# Altium schematic symbol library DISCRETE_T1.SchLib: 168 symbols
Pins are listed as number, name and electrical type; pins without a type are passive.

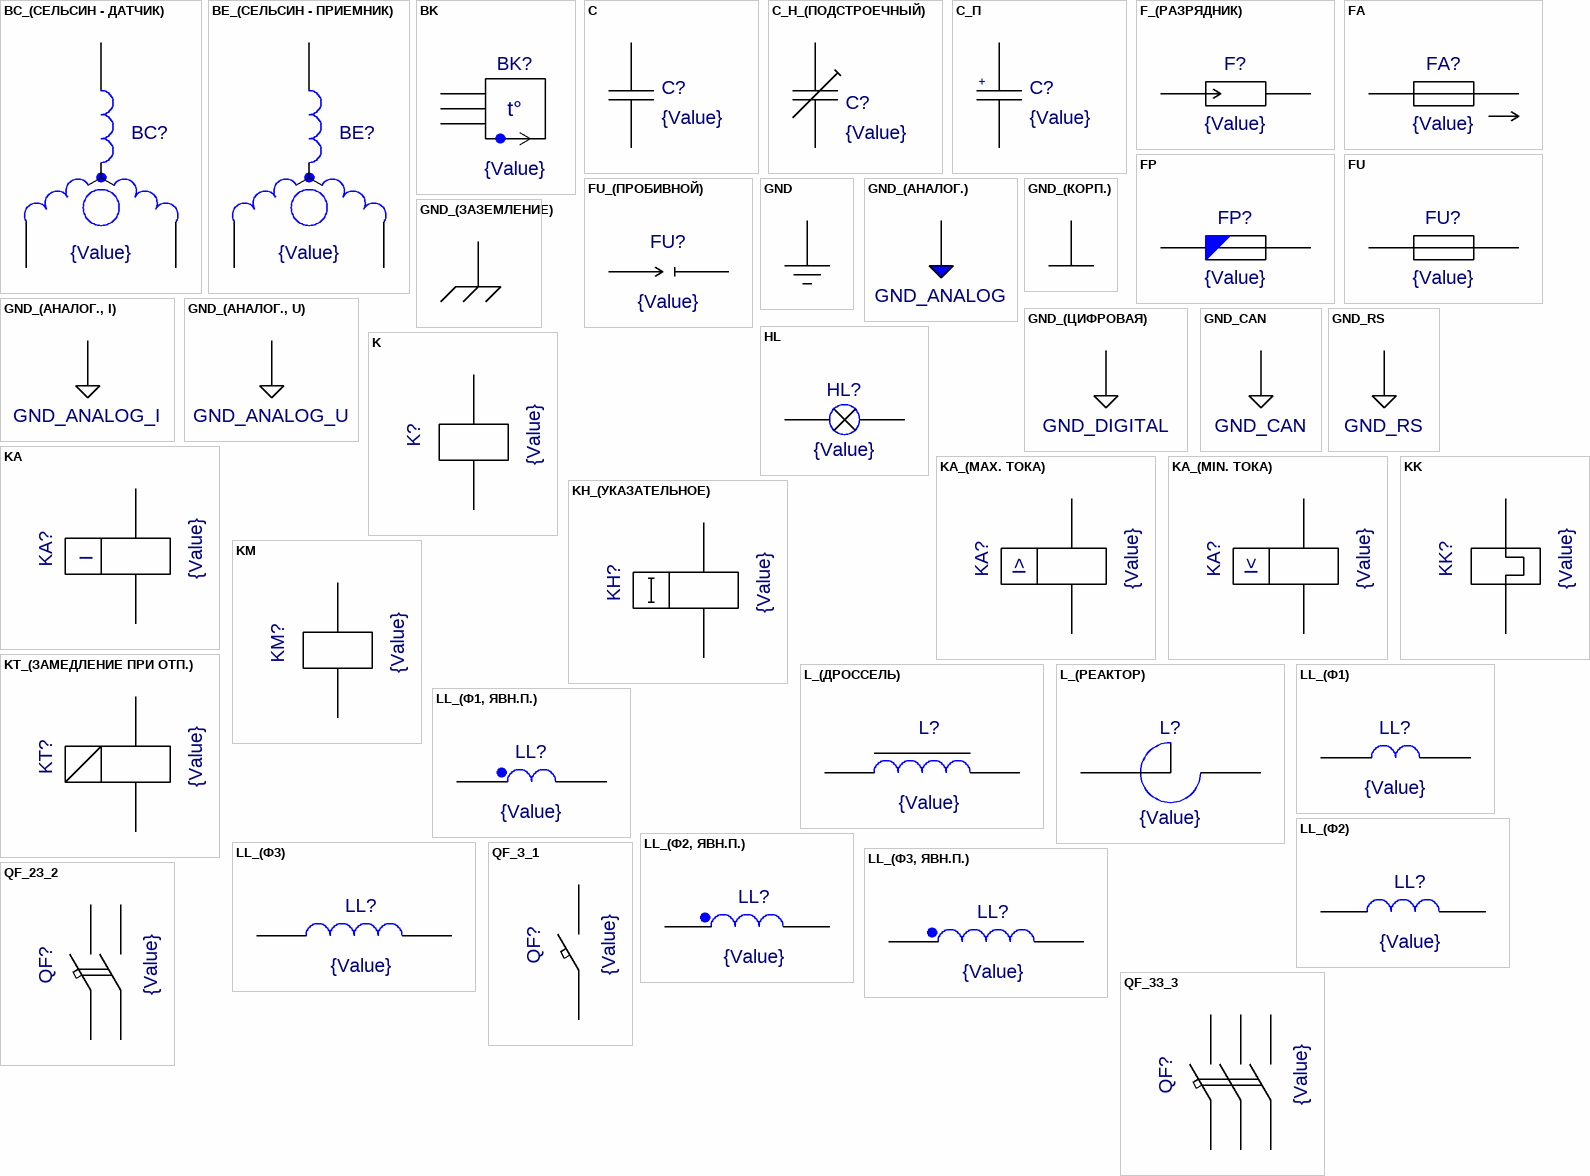
[diagram p0: symbols BC_(СЕЛЬСИН - ДАТЧИК) to QF_З_1]

## BC_(СЕЛЬСИН - ДАТЧИК)
designator BC?  value {Value}  (hidden comment: BC_(СЕЛЬСИН - ДАТЧИК))
pins: A1, A2, A3

## BE_(СЕЛЬСИН - ПРИЕМНИК)
designator BE?  value {Value}  (hidden comment: BE_(СЕЛЬСИН - ПРИЕМНИК))
pins: 1 A1, 2 A2, 3 A3

## BK
designator BK?  value {Value}  (hidden comment: BK)
pins: 1 A1, 2 A2, 3 A3
text: t°

## C
designator C?  value {Value}  (hidden comment: C)
pins: A, B

## C_Н_(ПОДСТРОЕЧНЫЙ)
designator C?  value {Value}  (hidden comment: C_Н_(ПОДСТРОЕЧНЫЙ))
pins: 1 A1, 2 A2

## C_П
designator C?  value {Value}  (hidden comment: C_П)
pins: MINUS A1, PLUS A2
text: +

## F_(РАЗРЯДНИК)
designator F?  value {Value}  (hidden comment: F_(РАЗРЯДНИК))
pins: 1 A1, 2 A2

## FA
designator FA?  value {Value}  (hidden comment: FA)
pins: 1 A1, 2 A2

## FP
designator FP?  value {Value}  (hidden comment: FP)
pins: A, B

## FU
designator FU?  value {Value}  (hidden comment: FU)
pins: 1 A1, 2 A2

## FU_(ПРОБИВНОЙ)
designator FU?  value {Value}  (hidden comment: FU_(ПРОБИВНОЙ))
pins: 1 A1, 2 A2

## GND
designator GND?  (value not drawn)
Value: *
pins: 1 GND (power)

## GND_(АНАЛОГ.)
designator GND?  (value not drawn)
Value: *
pins: 1 GND_ANALOG (power)

## GND_(АНАЛОГ., I)
designator GND?  (value not drawn)
Value: *
pins: 1 GND_ANALOG_I

## GND_(АНАЛОГ., U)
designator GND?  (value not drawn)
Value: *
pins: 1 GND_ANALOG_U

## GND_(ЗАЗЕМЛЕНИЕ)
designator GND?  (value not drawn)
Value: *
pins: 1 GND_EARTH (power)

## GND_(КОРП.)
designator GND?  (value not drawn)
Value: *
pins: 1 GND_FRAME (power)

## GND_(ЦИФРОВАЯ)
designator GND?  (value not drawn)
Value: *
pins: 1 GND_DIGITAL (power)

## GND_CAN
designator GND?  (value not drawn)
Value: *
pins: 1 GND_CAN (power)

## GND_RS
designator GND?  (value not drawn)
Value: *
pins: 1 GND_RS (power)

## HL
designator HL?  value {Value}  (hidden comment: HL)
pins: A1, A2

## K
designator K?  value {Value}  (hidden comment: K)
pins: A, B

## KA
designator KA?  value {Value}  (hidden comment: KA)
pins: A1, A2
text: I

## KA_(MAX. ТОКА)
designator KA?  value {Value}  (hidden comment: KA_(MAX. ТОКА))
pins: A1, A2
text: I>

## KA_(MIN. ТОКА)
designator KA?  value {Value}  (hidden comment: KA_(MIN. ТОКА))
pins: A1, A2
text: I<

## KH_(УКАЗАТЕЛЬНОЕ)
designator KH?  value {Value}  (hidden comment: KH_(УКАЗАТЕЛЬНОЕ))
pins: 1 A1, 2 A2

## KK
designator KK?  value {Value}  (hidden comment: KK)
pins: 1 A1, 2 A2

## KM
designator KM?  value {Value}  (hidden comment: KM)
pins: A, B

## KT_(ЗАМЕДЛЕНИЕ ПРИ ОТП.)
designator KT?  value {Value}  (hidden comment: KT_(ЗАМЕДЛЕНИЕ ПРИ ОТП.))
pins: 1 A1, 2 A2

## L_(ДРОССЕЛЬ)
designator L?  value {Value}  (hidden comment: L_(ДРОССЕЛЬ))
pins: 1 A1, 2 A2

## L_(РЕАКТОР)
designator L?  value {Value}  (hidden comment: L_(РЕАКТОР))
pins: 1 A1, 2 A2

## LL_(Ф1)
designator LL?  value {Value}  (hidden comment: LL_(Ф1))
pins: A1, A2

## LL_(Ф1, ЯВН.П.)
designator LL?  value {Value}  (hidden comment: LL_(Ф1, ЯВН.П.))
pins: 1 A1, 2 A2

## LL_(Ф2)
designator LL?  value {Value}  (hidden comment: LL_(Ф2))
pins: A1, A2

## LL_(Ф2, ЯВН.П.)
designator LL?  value {Value}  (hidden comment: LL_(Ф2, ЯВН.П.))
pins: 1 A1, 2 A2

## LL_(Ф3)
designator LL?  value {Value}  (hidden comment: LL_(Ф3))
pins: A1, A2

## LL_(Ф3, ЯВН.П.)
designator LL?  value {Value}  (hidden comment: LL_(Ф3, ЯВН.П.))
pins: 1 A1, 2 A2

## QF_2З_2
designator QF?  value {Value}  (hidden comment: QF_2З_2)
pins: A1, A2, A3, A4

## QF_3З_3
designator QF?  value {Value}  (hidden comment: QF_3З_3)
pins: A, B, C, D, E, F

## QF_З_1
designator QF?  value {Value}  (hidden comment: QF_З_1)
pins: 1 A1, 2 A2

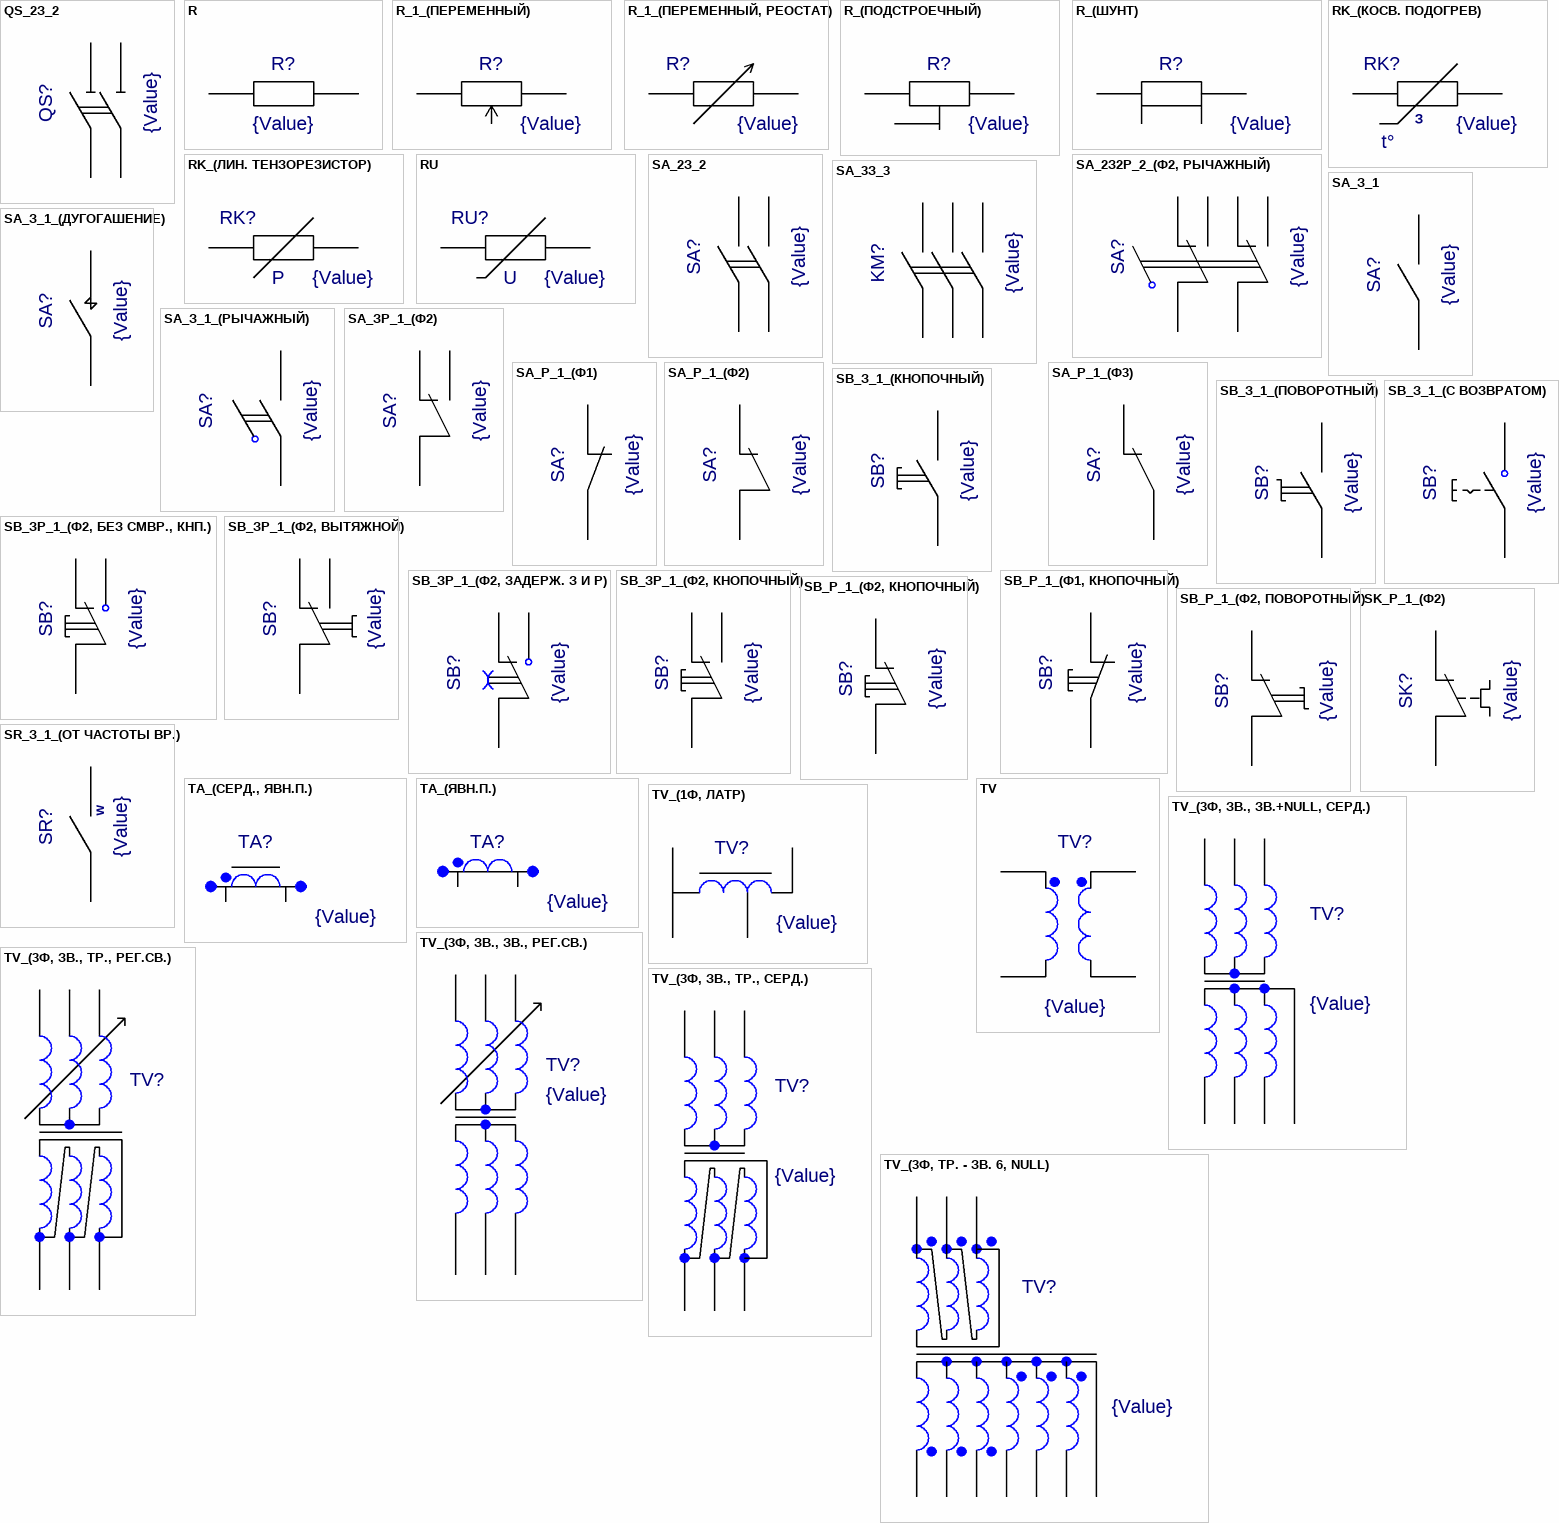
[diagram p1: symbols QS_2З_2 to TV_(3Ф, ТР. - ЗВ. 6, NULL)]

## QS_2З_2
designator QS?  value {Value}  (hidden comment: QS_2З_2)
pins: A1, A2, A3, A4

## R
designator R?  value {Value}  (hidden comment: R)
pins: A, B

## R_1_(ПЕРЕМЕННЫЙ)
designator R?  value {Value}  (hidden comment: R_1_(ПЕРЕМЕННЫЙ))
pins: 1 A1, 2 A2, 3 A3

## R_1_(ПЕРЕМЕННЫЙ, РЕОСТАТ)
designator R?  value {Value}  (hidden comment: R_1_(ПЕРЕМЕННЫЙ, РЕОСТАТ))
pins: 1 A1, 2 A2

## R_(ПОДСТРОЕЧНЫЙ)
designator R?  value {Value}  (hidden comment: R_(ПОДСТРОЕЧНЫЙ))
pins: 1 A1, 2 A2, 3 A3

## R_(ШУНТ)
designator R?  value {Value}  (hidden comment: R_(ШУНТ))
pins: 1 A1, 2 A2, 3 A3, 4 A4

## RK_(КОСВ. ПОДОГРЕВ)
designator RK?  value {Value}  (hidden comment: RK_(КОСВ. ПОДОГРЕВ))
pins: A, B
text: З; t°

## RK_(ЛИН. ТЕНЗОРЕЗИСТОР)
designator RK?  value {Value}  (hidden comment: RK_(ЛИН. ТЕНЗОРЕЗИСТОР))
pins: A, B
text: P

## RU
designator RU?  value {Value}  (hidden comment: RU)
pins: A, B
text: U

## SA_2З2Р_2_(Ф2, РЫЧАЖНЫЙ)
designator SA?  value {Value}  (hidden comment: SA_2З2Р_2_(Ф2, РЫЧАЖНЫЙ))
pins: A1, A2, A3, A4, A5, A6

## SA_2З_2
designator SA?  value {Value}  (hidden comment: SA_2З_2)
pins: A1, A2, A3, A4

## SA_3З_3
designator KM?  value {Value}  (hidden comment: SA_3З_3)
pins: a, b, c, d, e, f

## SA_З_1
designator SA?  value {Value}  (hidden comment: SA_З_1)
pins: A, B

## SA_З_1_(ДУГОГАШЕНИЕ)
designator SA?  value {Value}  (hidden comment: SA_З_1_(ДУГОГАШЕНИЕ))
pins: 1 A1, 2 A2

## SA_З_1_(РЫЧАЖНЫЙ)
designator SA?  value {Value}  (hidden comment: SA_З_1_(РЫЧАЖНЫЙ))
pins: A1, A2

## SA_ЗР_1_(Ф2)
designator SA?  value {Value}  (hidden comment: SA_ЗР_1_(Ф2))
pins: A1, A2, A3

## SA_Р_1_(Ф1)
designator SA?  value {Value}  (hidden comment: SA_Р_1_(Ф1))
pins: A, B

## SA_Р_1_(Ф2)
designator SA?  value {Value}  (hidden comment: SA_Р_1_(Ф2))
pins: A, B

## SA_Р_1_(Ф3)
designator SA?  value {Value}  (hidden comment: SA_Р_1_(Ф3))
pins: A, B

## SB_З_1_(КНОПОЧНЫЙ)
designator SB?  value {Value}  (hidden comment: SB_З_1_(КНОПОЧНЫЙ))
pins: A, B

## SB_З_1_(ПОВОРОТНЫЙ)
designator SB?  value {Value}  (hidden comment: SB_З_1_(ПОВОРОТНЫЙ))
pins: A, B

## SB_З_1_(С ВОЗВРАТОМ)
designator SB?  value {Value}  (hidden comment: SB_З_1_(С ВОЗВРАТОМ))
pins: A, B

## SB_ЗР_1_(Ф2, БЕЗ СМВР., КНП.)
designator SB?  value {Value}  (hidden comment: SB_ЗР_1_(Ф2, БЕЗ СМВР., КНП.))
pins: A1, A2, A3

## SB_ЗР_1_(Ф2, ВЫТЯЖНОЙ)
designator SB?  value {Value}  (hidden comment: SB_ЗР_1_(Ф2, ВЫТЯЖНОЙ))
pins: A1, A2, A3

## SB_ЗР_1_(Ф2, ЗАДЕРЖ. З И Р)
designator SB?  value {Value}  (hidden comment: SB_ЗР_1_(Ф2, ЗАДЕРЖ. З И Р))
pins: 1 A1, 2 A2, 3 A3

## SB_ЗР_1_(Ф2, КНОПОЧНЫЙ)
designator SB?  value {Value}  (hidden comment: SB_ЗР_1_(Ф2, КНОПОЧНЫЙ))
pins: A1, A2, A3

## SB_Р_1_(Ф1, КНОПОЧНЫЙ)
designator SB?  value {Value}  (hidden comment: SB_Р_1_(Ф1, КНОПОЧНЫЙ))
pins: a, b

## SB_Р_1_(Ф2, КНОПОЧНЫЙ)
designator SB?  value {Value}  (hidden comment: SB_Р_1_(Ф2, КНОПОЧНЫЙ))
pins: 1 A1, 2 A2

## SB_Р_1_(Ф2, ПОВОРОТНЫЙ)
designator SB?  value {Value}  (hidden comment: SB_Р_1_(Ф2, ПОВОРОТНЫЙ))
pins: A, B

## SK_Р_1_(Ф2)
designator SK?  value {Value}  (hidden comment: SK_Р_1_(Ф2))
pins: 1 A1, 2 A2

## SR_З_1_(ОТ ЧАСТОТЫ ВР.)
designator SR?  value {Value}  (hidden comment: SR_З_1_(ОТ ЧАСТОТЫ ВР.))
pins: A1, A2
text: w

## TA_(СЕРД., ЯВН.П.)
designator TA?  value {Value}  (hidden comment: TA_(СЕРД., ЯВН.П.))
pins: 1 A1, 2 A2

## TA_(ЯВН.П.)
designator TA?  value {Value}  (hidden comment: TA_(ЯВН.П.))
pins: 1 A1, 2 A2

## TV
designator TV?  value {Value}  (hidden comment: TV)
pins: 1 A1, 2 A2, 3 A3, 4 A4

## TV_(1Ф, ЛАТР)
designator TV?  value {Value}  (hidden comment: TV_(1Ф, ЛАТР))
pins: 1 A1, 2 A2, 3 A3, 4 A4

## TV_(3Ф, ЗВ., ЗВ.+NULL, СЕРД.)
designator TV?  value {Value}  (hidden comment: TV_(3Ф, ЗВ., ЗВ.+NULL, СЕРД.))
pins: 1 A1, 2 A2, 3 A3, 4 A4, 5 A5, 6 A6, 7 A7

## TV_(3Ф, ЗВ., ЗВ., РЕГ.СВ.)
designator TV?  value {Value}  (hidden comment: TV_(3Ф, ЗВ., ЗВ., РЕГ.СВ.))
pins: 1 A1, 2 A2, 3 A3, 4 A4, 5 A5, 6 A6

## TV_(3Ф, ЗВ., ТР., РЕГ.СВ.)
designator TV?  (value not drawn)
Value: *
pins: 1 A1, 2 A2, 3 A3, 4 A4, 5 A5, 6 A6

## TV_(3Ф, ЗВ., ТР., СЕРД.)
designator TV?  value {Value}  (hidden comment: TV_(3Ф, ЗВ., ТР., СЕРД.))
pins: 1 A1, 2 A2, 3 A3, 4 A4, 5 A5, 6 A6

## TV_(3Ф, ТР. - ЗВ. 6, NULL)
designator TV?  value {Value}  (hidden comment: TV_(3Ф, ТР. - ЗВ. 6, NULL))
pins: 1 A1, 2 A2, 3 A3, 4 A4, 5 A5, 6 A6, 7 A7, 8 A8, 9 A9, 10 A10

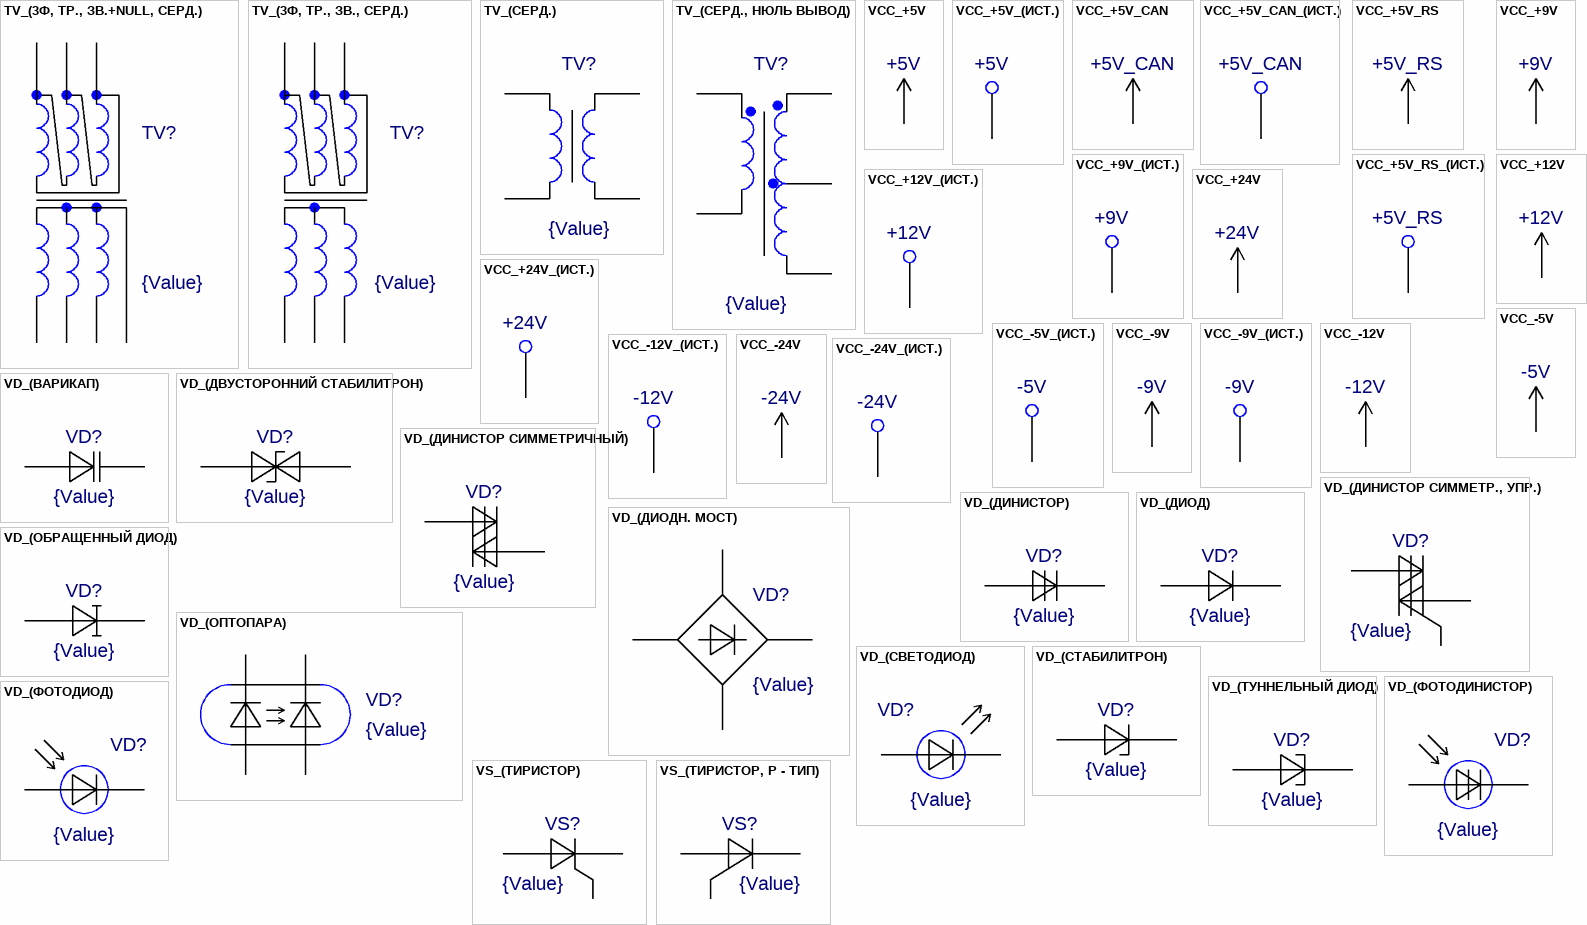
[diagram p2: symbols TV_(3Ф, ТР., ЗВ.+NULL, СЕРД.) to VS_(ТИРИСТОР, P - ТИП)]

## TV_(3Ф, ТР., ЗВ.+NULL, СЕРД.)
designator TV?  value {Value}  (hidden comment: TV_(3Ф, ТР., ЗВ.+NULL, СЕРД.))
pins: 1 A1, 2 A2, 3 A3, 4 A4, 5 A5, 6 A6, 7 A7

## TV_(3Ф, ТР., ЗВ., СЕРД.)
designator TV?  value {Value}  (hidden comment: TV_(3Ф, ТР., ЗВ., СЕРД.))
pins: 1 A1, 2 A2, 3 A3, 4 A4, 5 A5, 6 A6

## TV_(СЕРД.)
designator TV?  value {Value}  (hidden comment: TV_(СЕРД.))
pins: A1, A2, A3, A4

## TV_(СЕРД., НЮЛЬ ВЫВОД)
designator TV?  value {Value}  (hidden comment: TV_(СЕРД., НЮЛЬ ВЫВОД))
pins: 1 A1, 2 A2, 3 A3, 4 A4, 5 A5

## VCC_+5V
designator VCC?  (value not drawn)
Value: *
pins: 1 VCC_+5V (power)
text: +5V

## VCC_+5V_(ИСТ.)
designator VCC?  (value not drawn)
Value: *
pins: 1 VCC_+5V (power)
text: +5V

## VCC_+5V_CAN
designator VCC?  (value not drawn)
Value: *
pins: 1 VCC_+5V_CAN (power)
text: +5V_CAN

## VCC_+5V_CAN_(ИСТ.)
designator VCC?  (value not drawn)
Value: *
pins: 1 VCC_+5V_CAN (power)
text: +5V_CAN

## VCC_+5V_RS
designator VCC?  (value not drawn)
Value: *
pins: 1 VCC_+5V_RS (power)
text: +5V_RS

## VCC_+5V_RS_(ИСТ.)
designator VCC?  (value not drawn)
Value: *
pins: 1 VCC_+5V_RS (power)
text: +5V_RS

## VCC_+9V
designator VCC?  (value not drawn)
Value: *
pins: 1 VCC_+9V (power)
text: +9V

## VCC_+9V_(ИСТ.)
designator VCC?  (value not drawn)
Value: *
pins: 1 VCC_+9V (power)
text: +9V

## VCC_+12V
designator VCC?  (value not drawn)
Value: *
pins: 1 VCC_+12V (power)
text: +12V

## VCC_+12V_(ИСТ.)
designator VCC?  (value not drawn)
Value: *
pins: 1 VCC_+12V (power)
text: +12V

## VCC_+24V
designator VCC?  (value not drawn)
Value: *
pins: 1 VCC_+24V (power)
text: +24V

## VCC_+24V_(ИСТ.)
designator VCC?  (value not drawn)
Value: *
pins: 1 VCC_+24V (power)
text: +24V

## VCC_-5V
designator VCC?  (value not drawn)
Value: *
pins: 1 VCC_-5V (power)
text: -5V

## VCC_-5V_(ИСТ.)
designator VCC?  (value not drawn)
Value: *
pins: 1 VCC_-5V (power)
text: -5V

## VCC_-9V
designator VCC?  (value not drawn)
Value: *
pins: 1 VCC_-9V (power)
text: -9V

## VCC_-9V_(ИСТ.)
designator VCC?  (value not drawn)
Value: *
pins: 1 VCC_-9V (power)
text: -9V

## VCC_-12V
designator VCC?  (value not drawn)
Value: *
pins: 1 VCC_-12V (power)
text: -12V

## VCC_-12V_(ИСТ.)
designator VCC?  (value not drawn)
Value: *
pins: 1 VCC_-12V (power)
text: -12V

## VCC_-24V
designator VCC?  (value not drawn)
Value: *
pins: 1 VCC_-24V (power)
text: -24V

## VCC_-24V_(ИСТ.)
designator VCC?  (value not drawn)
Value: *
pins: 1 VCC_-24V (power)
text: -24V

## VD_(ВАРИКАП)
designator VD?  value {Value}  (hidden comment: VD_(ВАРИКАП))
pins: A1, A2

## VD_(ДВУСТОРОННИЙ СТАБИЛИТРОН)
designator VD?  value {Value}  (hidden comment: VD_(ДВУСТОРОННИЙ СТАБИЛИТРОН))
pins: A1, A2

## VD_(ДИНИСТОР СИММЕТР., УПР.)
designator VD?  value {Value}  (hidden comment: VD_(ДИНИСТОР СИММЕТР., УПР.))
pins: A1, A2, A3

## VD_(ДИНИСТОР СИММЕТРИЧНЫЙ)
designator VD?  value {Value}  (hidden comment: VD_(ДИНИСТОР СИММЕТРИЧНЫЙ))
pins: A1, A2

## VD_(ДИНИСТОР)
designator VD?  value {Value}  (hidden comment: VD_(ДИНИСТОР))
pins: A1, A2

## VD_(ДИОД)
designator VD?  value {Value}  (hidden comment: VD_(ДИОД))
pins: A1, A2

## VD_(ДИОДН. МОСТ)
designator VD?  value {Value}  (hidden comment: VD_(ДИОДН. МОСТ))
pins: 1 A1, 2 A2, 3 A3, 4 A4

## VD_(ОБРАЩЕННЫЙ ДИОД)
designator VD?  value {Value}  (hidden comment: VD_(ОБРАЩЕННЫЙ ДИОД))
pins: A1, A2

## VD_(ОПТОПАРА)
designator VD?  value {Value}  (hidden comment: VD_(ОПТОПАРА))
pins: 1 A1, 2 A2, 3 A3, 4 A4

## VD_(СВЕТОДИОД)
designator VD?  value {Value}  (hidden comment: VD_(СВЕТОДИОД))
pins: A1, A2

## VD_(СТАБИЛИТРОН)
designator VD?  value {Value}  (hidden comment: VD_(СТАБИЛИТРОН))
pins: A1, A2

## VD_(ТУННЕЛЬНЫЙ ДИОД)
designator VD?  value {Value}  (hidden comment: VD_(ТУННЕЛЬНЫЙ ДИОД))
pins: A1, A2

## VD_(ФОТОДИНИСТОР)
designator VD?  value {Value}  (hidden comment: VD_(ФОТОДИНИСТОР))
pins: A1, A2

## VD_(ФОТОДИОД)
designator VD?  value {Value}  (hidden comment: VD_(ФОТОДИОД))
pins: A1, A2

## VS_(ТИРИСТОР)
designator VS?  value {Value}  (hidden comment: VS_(ТИРИСТОР))
pins: A1, A2, A3

## VS_(ТИРИСТОР, P - ТИП)
designator VS?  value {Value}  (hidden comment: VS_(ТИРИСТОР, P - ТИП))
pins: A1, A2, A3

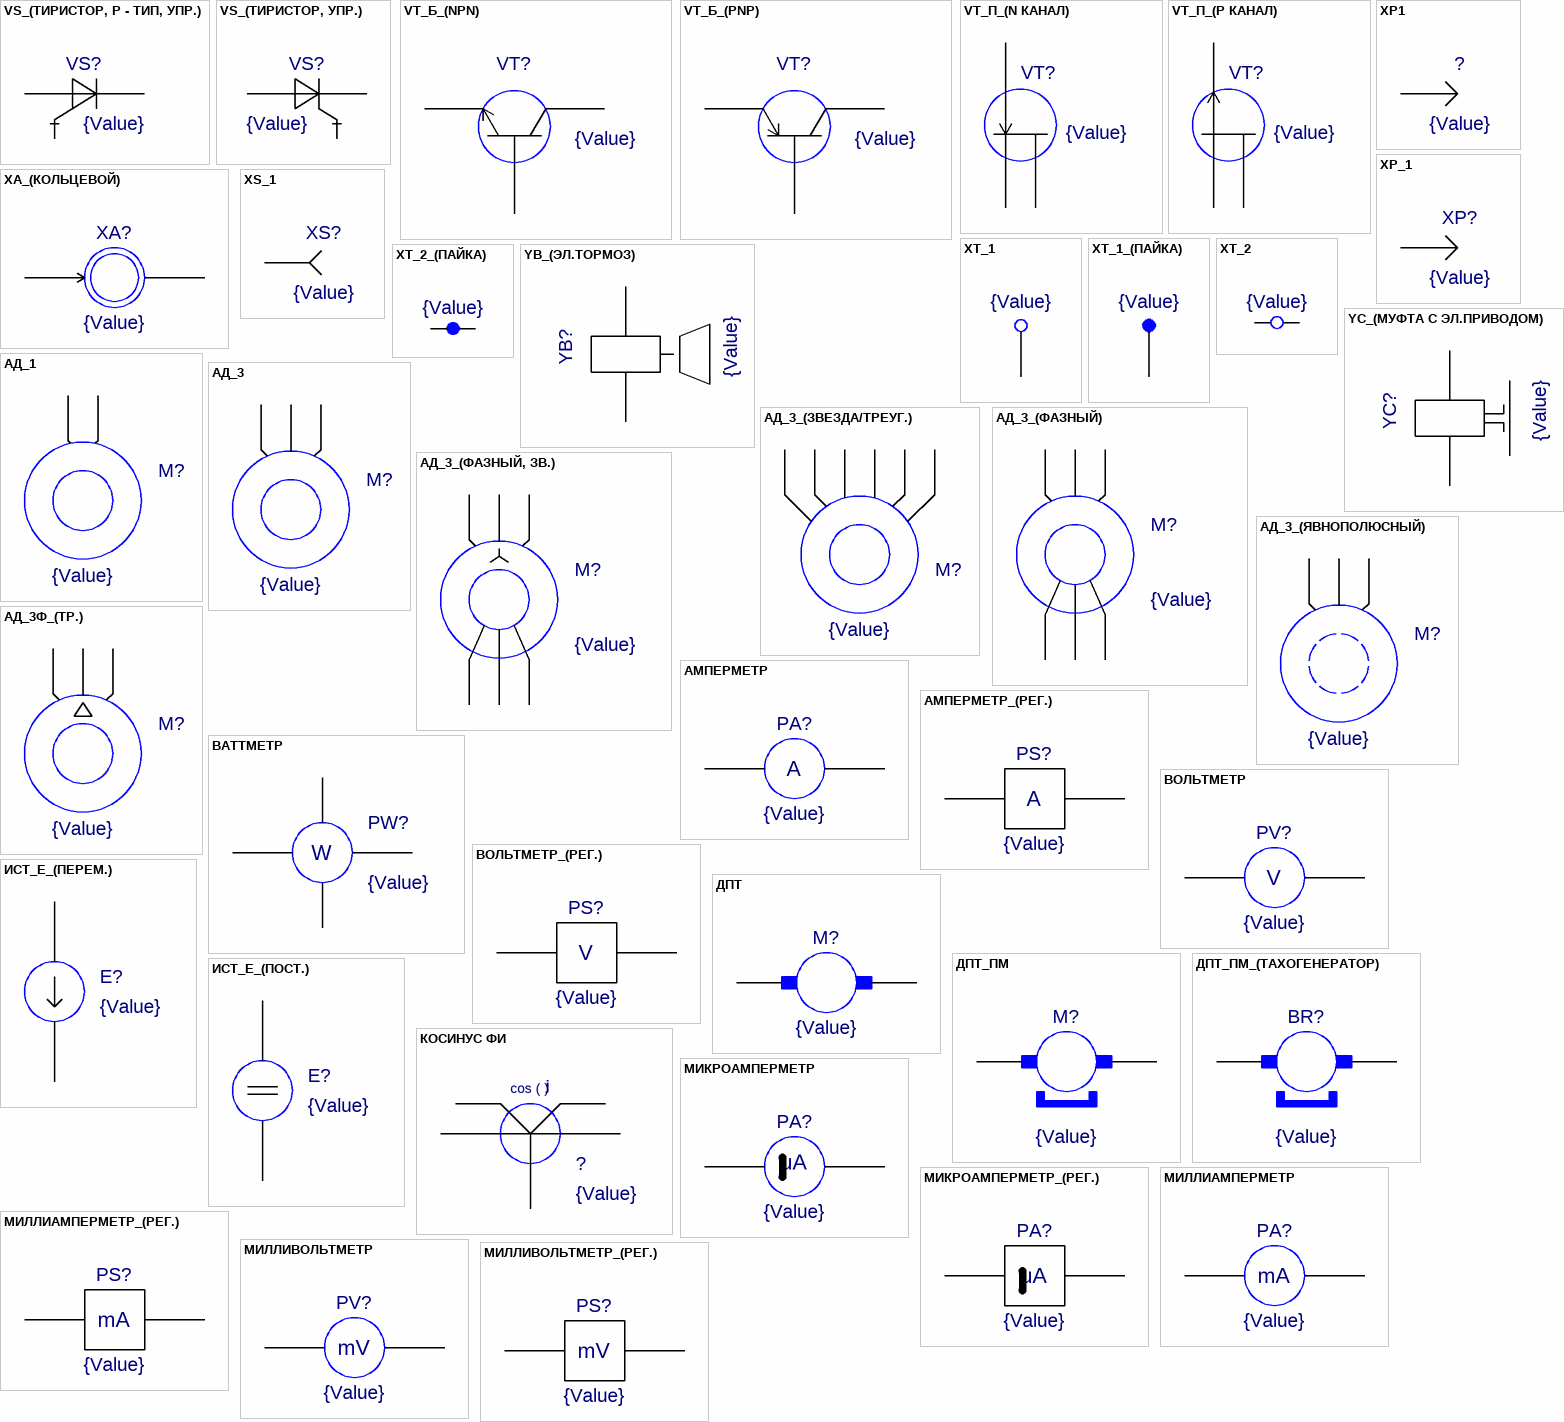
[diagram p3: symbols VS_(ТИРИСТОР, P - ТИП, УПР.) to МИЛЛИВОЛЬТМЕТР_(РЕГ.)]

## VS_(ТИРИСТОР, P - ТИП, УПР.)
designator VS?  value {Value}  (hidden comment: VS_(ТИРИСТОР, P - ТИП, УПР.))
pins: A1, A2, A3

## VS_(ТИРИСТОР, УПР.)
designator VS?  value {Value}  (hidden comment: VS_(ТИРИСТОР, УПР.))
pins: A1, A2, A3

## VT_Б_(NPN)
designator VT?  value {Value}  (hidden comment: VT_Б_(NPN))
pins: 1 A1, 2 A2, 3 A3

## VT_Б_(PNP)
designator VT?  value {Value}  (hidden comment: VT_Б_(PNP))
pins: 1 A1, 2 A2, 3 A3

## VT_П_(N КАНАЛ)
designator VT?  value {Value}  (hidden comment: VT_П_(N КАНАЛ))
pins: 1 A1, 2 A2, 3 A3

## VT_П_(P КАНАЛ)
designator VT?  value {Value}  (hidden comment: VT_П_(P КАНАЛ))
pins: 1 A1, 2 A2, 3 A3

## XA_(КОЛЬЦЕВОЙ)
designator XA?  value {Value}  (hidden comment: XA_(КОЛЬЦЕВОЙ))
pins: 1 A1, 2 A2

## XP1
designator ?  value {Value}  (hidden comment: XP1)
footprint 1PAD
pins: 1 A1

## XP_1
designator XP?  value {Value}  (hidden comment: XP_1)
pins: A1

## XS_1
designator XS?  value {Value}  (hidden comment: XS_1)
pins: A1

## XT_1
designator XT?  value {Value}  (hidden comment: XT_1)
pins: A1

## XT_1_(ПАЙКА)
designator XT?  value {Value}  (hidden comment: XT_1_(ПАЙКА))
pins: 1 A1

## XT_2
designator XT?  value {Value}  (hidden comment: XT_2)
pins: A1, A2

## XT_2_(ПАЙКА)
designator XT?  value {Value}  (hidden comment: XT_2_(ПАЙКА))
pins: 1 A1, 2 A2

## YB_(ЭЛ.ТОРМОЗ)
designator YB?  value {Value}  (hidden comment: YB_(ЭЛ.ТОРМОЗ))
pins: 1 A1, 2 A2

## YC_(МУФТА С ЭЛ.ПРИВОДОМ)
designator YC?  value {Value}  (hidden comment: YC_(МУФТА С ЭЛ.ПРИВОДОМ))
pins: 1 A1, 2 A2

## АД_1
designator M?  value {Value}  (hidden comment: АД_1)
pins: A1, A2

## АД_3
designator M?  value {Value}  (hidden comment: АД_3)
pins: A1, A2, A3

## АД_3_(ЗВЕЗДА/ТРЕУГ.)
designator M?  value {Value}  (hidden comment: АД_3_(ЗВЕЗДА/ТРЕУГ.))
pins: A1, A2, A3, A4, A5, A6

## АД_3_(ФАЗНЫЙ)
designator M?  value {Value}  (hidden comment: АД_3_(ФАЗНЫЙ))
pins: 1 A1, 2 A2, 3 A3, 4 A4, 5 A5, 6 A6

## АД_3_(ФАЗНЫЙ, ЗВ.)
designator M?  value {Value}  (hidden comment: АД_3_(ФАЗНЫЙ, ЗВ.))
pins: A1, A2, A3, A4, A5, A6

## АД_3_(ЯВНОПОЛЮСНЫЙ)
designator M?  value {Value}  (hidden comment: АД_3_(ЯВНОПОЛЮСНЫЙ))
pins: A1, A2, A3

## АД_3Ф_(ТР.)
designator M?  value {Value}  (hidden comment: АД_3Ф_(ТР.))
pins: 1 A1, 2 A2, 3 A3

## АМПЕРМЕТР
designator PA?  value {Value}  (hidden comment: АМПЕРМЕТР)
pins: A1, A2
text: A

## АМПЕРМЕТР_(РЕГ.)
designator PS?  value {Value}  (hidden comment: АМПЕРМЕТР_(РЕГ.))
pins: 1 A1, 2 A2
text: A

## ВАТТМЕТР
designator PW?  value {Value}  (hidden comment: ВАТТМЕТР)
pins: 1 A1, 2 A2, 3 A3, 4 A4
text: W

## ВОЛЬТМЕТР
designator PV?  value {Value}  (hidden comment: ВОЛЬТМЕТР)
pins: A1, A2
text: V

## ВОЛЬТМЕТР_(РЕГ.)
designator PS?  value {Value}  (hidden comment: ВОЛЬТМЕТР_(РЕГ.))
pins: 1 A1, 2 A2
text: V

## ДПТ
designator M?  value {Value}  (hidden comment: ДПТ)
pins: A1, A2

## ДПТ_ПМ
designator M?  value {Value}  (hidden comment: ДПТ_ПМ)
pins: A1, A2

## ДПТ_ПМ_(ТАХОГЕНЕРАТОР)
designator BR?  value {Value}  (hidden comment: ДПТ_ПМ_(ТАХОГЕНЕРАТОР))
pins: 1 A1, 2 A2

## ИСТ_E_(ПЕРЕМ.)
designator E?  value {Value}  (hidden comment: ИСТ_E_(ПЕРЕМ.))
pins: 1 A1, 2 A2

## ИСТ_E_(ПОСТ.)
designator E?  value {Value}  (hidden comment: ИСТ_E_(ПОСТ.))
pins: 1 A1, 2 A2

## КОСИНУС ФИ
designator ?  value {Value}  (hidden comment: КОСИНУС ФИ)
pins: 1 A1, 2 A2, 3 A3, 4 A4, 5 A5
text: cos ( ); j

## МИКРОАМПЕРМЕТР
designator PA?  value {Value}  (hidden comment: МИКРОАМПЕРМЕТР)
pins: 1 A1, 2 A2
text: uA

## МИКРОАМПЕРМЕТР_(РЕГ.)
designator PA?  value {Value}  (hidden comment: МИКРОАМПЕРМЕТР_(РЕГ.))
pins: 1 A1, 2 A2
text: uA

## МИЛЛИАМПЕРМЕТР
designator PA?  value {Value}  (hidden comment: МИЛЛИАМПЕРМЕТР)
pins: A1, A2
text: mA

## МИЛЛИАМПЕРМЕТР_(РЕГ.)
designator PS?  value {Value}  (hidden comment: МИЛЛИАМПЕРМЕТР_(РЕГ.))
pins: 1 A1, 2 A2
text: mA

## МИЛЛИВОЛЬТМЕТР
designator PV?  value {Value}  (hidden comment: МИЛЛИВОЛЬТМЕТР)
pins: 1 A1, 2 A2
text: mV

## МИЛЛИВОЛЬТМЕТР_(РЕГ.)
designator PS?  value {Value}  (hidden comment: МИЛЛИВОЛЬТМЕТР_(РЕГ.))
pins: 1 A1, 2 A2
text: mV

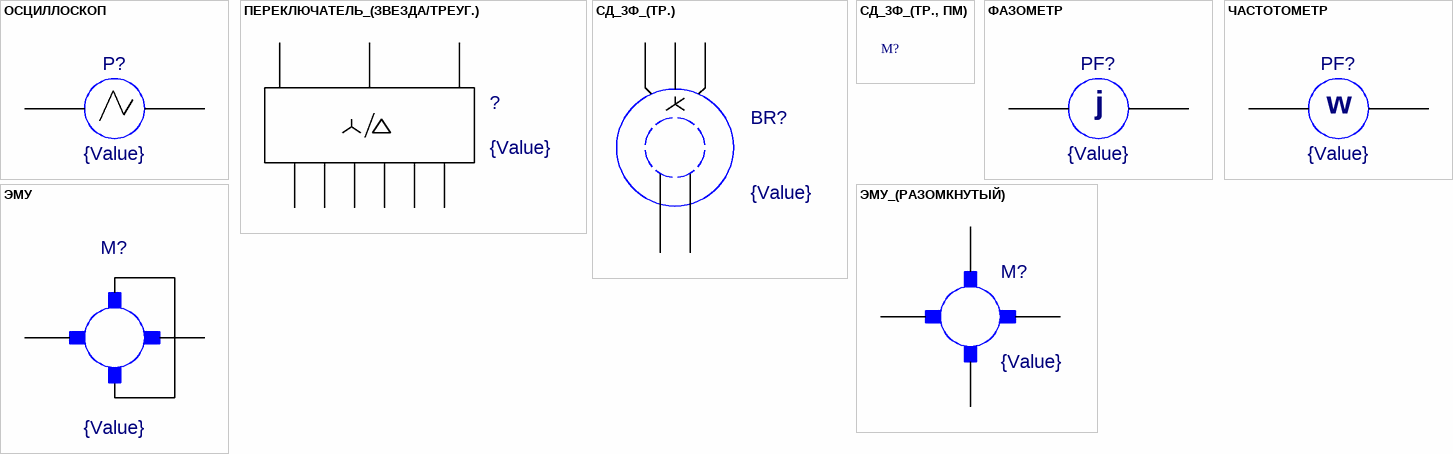
[diagram p4: symbols ОСЦИЛЛОСКОП to ЭМУ_(РАЗОМКНУТЫЙ)]

## ОСЦИЛЛОСКОП
designator P?  value {Value}  (hidden comment: ОСЦИЛЛОСКОП)
pins: 1 A1, 2 A2

## ПЕРЕКЛЮЧАТЕЛЬ_(ЗВЕЗДА/ТРЕУГ.)
designator ?  value {Value}  (hidden comment: ПЕРЕКЛЮЧАТЕЛЬ_(ЗВЕЗДА/ТРЕУГ.))
pins: A1, A2, A3, A4, A5, A6, A7, A8, A9

## СД_3Ф_(ТР.)
designator BR?  value {Value}  (hidden comment: СД_3Ф_(ТР.))
pins: 1 A1, 2 A2, 3 A3, 4 A4, 5 A5

## СД_3Ф_(ТР., ПМ)
designator M?  (value not drawn)
Value: *

## ФАЗОМЕТР
designator PF?  value {Value}  (hidden comment: ФАЗОМЕТР)
pins: 1 A1, 2 A2
text: j

## ЧАСТОТОМЕТР
designator PF?  value {Value}  (hidden comment: ЧАСТОТОМЕТР)
pins: A1, A2
text: w

## ЭМУ
designator M?  value {Value}  (hidden comment: ЭМУ)
pins: 1 A1, 2 A2

## ЭМУ_(РАЗОМКНУТЫЙ)
designator M?  value {Value}  (hidden comment: ЭМУ_(РАЗОМКНУТЫЙ))
pins: 1 A1, 2 A2, 3 A3, 4 A4